# Altium footprint library Motor_Driver_HIP4082_TPH1R403_Board_V1.0.PcbLib: 15 footprints
Each footprint in its own frame and in the unit in brackets; x right, y up, seen from the top. Pads: shape width x height; smd on the part's side, far side on the other; paste and mask are expansions set on the pad; w line width, h text height; cw(c..) or ccw(c..) is an arc to the next point about the centre after c.
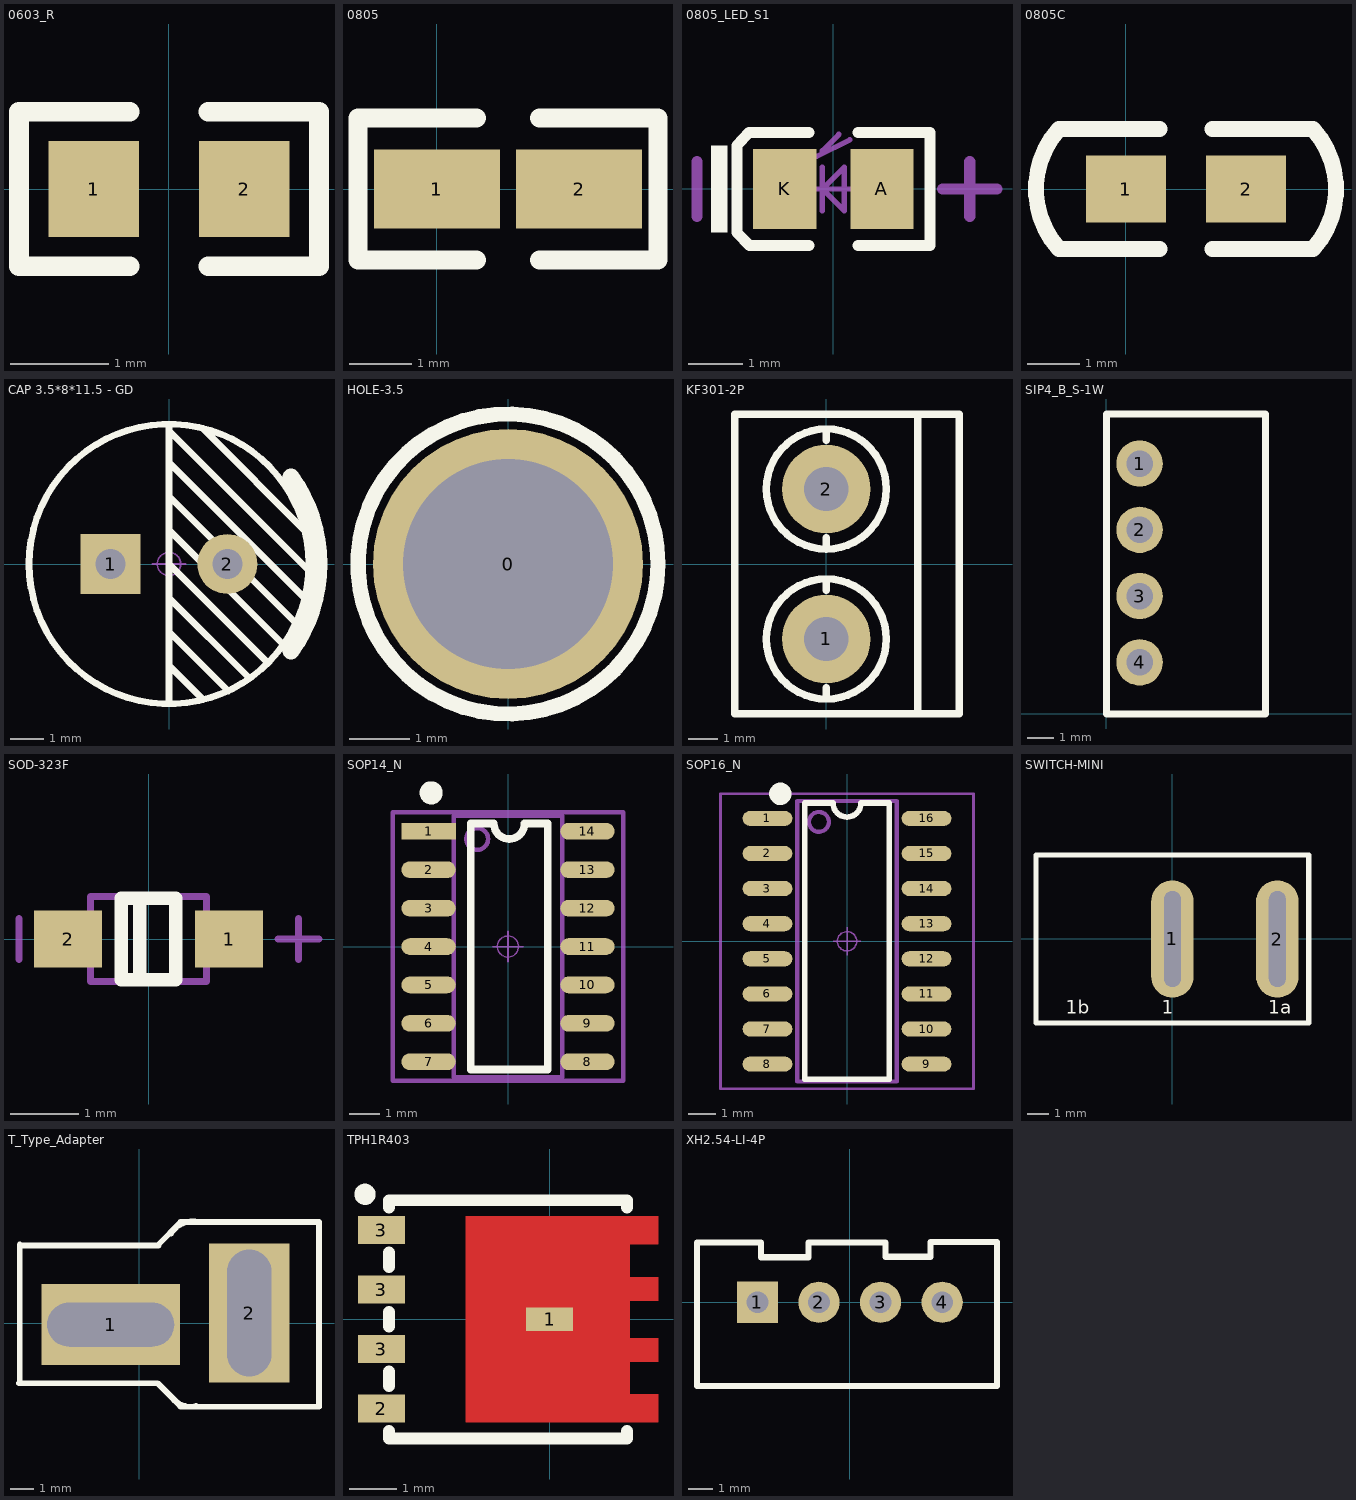
[diagram p0: the footprints below, top view; thin cyan lines are the x and y axes]

## 0603_R [mm]
pads (2):
  rect 0.93x0.98 smd: 1(-0.77,0) 2(0.77,0)
Top Overlay:
  lines w0.2: -0.4,-0.79 -1.535,-0.79 -1.535,0.79 -0.4,0.79 ; 0.4,-0.79 1.535,-0.79 1.535,0.79 0.4,0.79
3D body "User Library-RES_1609-0603.STEP": height 0.56, standoff 0, extent -0.85,-0.4 0.85,0.4

## 0805 [mil]
height 49.21
pads (2):
  rect 80x50 smd: 1(0,0) 2(90,0)
Top Overlay:
  lines w12: 25,-45 -50,-45 -50,45 25,45 ; 65,-45 140,-45 140,45 65,45
3D body "User Library-RES_2013-0805.STEP": height 29.92, standoff 0, extent -0.27,-26.57 90.28,26.58

## 0805_LED_S1 [mm]
pads (2):
  rect 1.16x1.47 smd: A(0.89,0) K(-0.89,0)
Top Overlay:
  rectangle: -2.245,-0.8 -1.945,0.8
  lines w0.2: -0.45,-1.035 -1.535,-1.035 -1.77,-0.8 -1.77,0.8 -1.55,1.035 -0.45,1.035 ; 0.45,-1.035 1.77,-1.035 1.77,1.035 0.45,1.035
Mechanical 13:
  lines w0.1: -0.4,0 0.4,0 ; -0.3,0.6 0.3,0.9 ; -0.2,-0.4 -0.2,0.4 ; -0.2,0.7 0.1,1 ; -0.2,0 0.2,-0.4 0.2,0.4 -0.2,0
Mechanical 15:
  lines w0.203: -2.5,-0.5 -2.5,0.5 ; 2,0 3,0 ; 2.5,-0.5 2.5,0.5
3D body "User Library-led_0805.step": height 1.1, standoff 0, extent -1.01,-0.625 1.01,0.625

## 0805C [mil]
height 183.07
pads (2):
  rect 60x50 smd: 1(0,0) 2(90,0)
Top Overlay:
  lines w12: 25,-45 -50,-45 cw(c0,0) -50,45 25,45 ; 65,-45 140,-45 ccw(c90,0) 140,45 65,45
3D body "SW3DPS-CAPACITOR 0805-DEFAULT.STEP": height 28.74, standoff -1.18, extent 5.64,-25.78 84.38,25.8

## CAP 3.5*8*11.5 - GD [mm] "脚距3.5mm直径8mm高度11.5mm"
height 4.65
pads (2):
  rect 1.8x1.8 hole 0.9: 1(-1.75,0)
  round 1.8 hole 0.9: 2(1.75,0)
Top Overlay:
  circle w0.2: c0,0 r4.2
  lines w0.2: 0,-4.191 0,4 ; 0,-3.048 1.016,-4.064 ; 0,-2.032 1.778,-3.81 ; 0,-1.016 2.413,-3.429 ; 0,0 2.921,-2.921 ; 0,1.016 3.429,-2.413 ; 0,2.032 3.81,-1.778 ; 0,3.048 4.064,-1.016 ; 0,4.191 0,4 ; 1.016,4.064 4.191,0.889 ; 4.191,-0.127 4.127,-0.127 0,4
  lines w0.504: 3.663,-2.616 ccw(c0,0) 3.663,2.616
Mechanical 15:
  circle w0.05: c0,0 r0.35
  lines w0.05: -0.5,0 0.5,0 ; 0,-0.5 0,0.5
3D body "CAP 3.5X8X11.5.STEP": height 11.54, standoff -3.37, extent -4,-4 4.01,4

## HOLE-3.5 [mm]
height 4.65
pads (1):
  round 4.5 hole 3.5: 0(0,0)
Top Overlay:
  circle w0.254: c0,0 r2.5

## KF301-2P [mm]
height 4.65
pads (2):
  round 3 hole 1.5: 1(0,-2.54) 2(0,2.54)
Top Overlay:
  circle w0.254: c0,2.54 r2.032
  circle w0.254: c0,-2.54 r2.032
  lines w0.254: 0,-4.572 0,-4.191 ; 0,-0.889 0,-0.508 ; 0,0.508 0,0.889 ; 0,4.191 0,4.572 ; 3.1,-5.08 3.1,5.08 ; -3.1,-5.08 -3.1,5.08 4.5,5.08 4.5,-5.08 -3.1,-5.08

## SIP4_B_S-1W [mil]
height 183.07
pads (4):
  round 70 hole 40: 1(50,378) 2(50,278) 3(50,178) 4(50,78)
Top Overlay:
  lines w10: 0,0 0,452.76 240,452.76 240,0 0,0

## SOD-323F [mm]
height 1.25
pads (2):
  rect 1x0.83 smd: 1(1.18,0) 2(-1.18,0)
Top Overlay:
  lines w0.2: -0.13,-0.6 -0.13,0.6 ; -0.4,-0.6 0.4,-0.6 0.4,0.6 -0.4,0.6 -0.4,-0.6
Mechanical 13:
  lines w0.1: -0.85,-0.625 -0.85,0.625 0.85,0.625 0.85,-0.625 -0.85,-0.625
Mechanical 15:
  lines w0.1: -1.9,-0.3 -1.9,0.3 ; 1.9,0 2.5,0 ; 2.2,-0.3 2.2,0.3
3D body "SOD323F.STEP": height 0.75, standoff -0.01, extent -1.4,-0.675 1.4,0.675

## SOP14_N [mm] "8.7*6.2*1.8mm（长宽高）"
height 4.65
pads (14):
  rect 1.8x0.55 smd: 1(-2.625,3.81)
  oval 1.8x0.55 smd: 2(-2.625,2.54) 3(-2.625,1.27) 4(-2.625,0) 5(-2.625,-1.27) 6(-2.625,-2.54) 7(-2.625,-3.81) 8(2.625,-3.81) 9(2.625,-2.54) 10(2.625,-1.27) 11(2.625,0) 12(2.625,1.27) 13(2.625,2.54) 14(2.625,3.81)
Top Overlay:
  circle w0.508: c-2.54,5.08 r0.127
  lines w0.254: -1.23,-4.064 1.31,-4.064 1.31,4.064 0.548,4.064 cw(c0.04,4.064) 0.04,3.556 cw(c0.04,4.064) -0.468,4.064 -1.23,4.064 -1.23,-4.064
Mechanical 13:
  circle w0.15: c-1.016,3.556 r0.359
  lines w0.15: -1.8,-4.318 1.8,-4.318 1.8,4.318 -1.8,4.318 -1.8,-4.318
Mechanical 15:
  circle w0.05: c0,0 r0.35
  lines w0.05: -0.5,0 0.5,0 ; 0,-0.5 0,0.5
  lines w0.15: -3.81,-4.445 -3.81,4.445 3.81,4.445 3.81,-4.445 -3.81,-4.445
3D body "SOP14.STEP": height 1.9, standoff 0, extent -3.003,-4.35 3.003,4.35

## SOP16_N [mm] "10.3*6.2*1.8mm（长宽高）封装库来自淘宝卖家 ID：黄晶宝石"
height 1.75
pads (16):
  oval 1.8x0.55 smd: 1(-2.877,4.445) 2(-2.877,3.175) 3(-2.877,1.905) 4(-2.877,0.635) 5(-2.877,-0.635) 6(-2.877,-1.905) 7(-2.877,-3.175) 8(-2.877,-4.445) 9(2.877,-4.445) 10(2.877,-3.175) 11(2.877,-1.905) 12(2.877,-0.635) 13(2.877,0.635) 14(2.877,1.905) 15(2.877,3.175) 16(2.877,4.445)
Top Overlay:
  circle w0.5: c-2.413,5.334 r0.155
  lines w0.2: -1.524,5 -1.524,-5 1.524,-5 1.524,5
  lines w0.203: -1.524,5 -0.508,5 ccw(c0,5) 0,4.492 ccw(c0,5) 0.508,5 1.524,5
Mechanical 13:
  circle w0.15: c-1.016,4.318 r0.359
  lines w0.15: -1.8,-5.08 -1.8,5.08 1.8,5.08 1.8,-5.08 -1.8,-5.08
Mechanical 15:
  circle w0.05: c0,0 r0.35
  lines w0.05: -0.5,0 0.5,0 ; 0,-0.5 0,0.5
  lines w0.1: -4.572,-5.334 -4.572,5.334 4.572,5.334 4.572,-5.334 -4.572,-5.334
3D body "SOP16.STEP": height 1.9, standoff 0, extent -3.003,-5 3.003,5

## SWITCH-MINI [mil]
height 49.21
pads (2):
  oval 80x220 hole 31.5 slot 180 at 90 deg: 1(0,0) 2(196.85,0)
Top Overlay:
  lines w10: -255.91,-157.48 -255.91,157.48 255.91,157.48 255.91,-157.48 -255.91,-157.48
  text "1a" at 180,-140 h25
  text "1" at -20,-140 h25
  text "1b" at -200,-140 h25

## T_Type_Adapter [mm]
pads (2):
  rect 6x3.5 hole 1.905 slot 5.49 at 0 deg: 1(-1.245,-0.051)
  rect 3.5x6 hole 1.905 slot 5.49 at 90 deg: 2(4.755,0.449)
Top Overlay:
  lines w0.254: -5.213,-2.591 0.787,-2.591 1.787,-3.591 ; -5.182,-2.591 -5.182,3.409 ; -5.182,3.378 0.818,3.378 ; 0.803,3.394 1.803,4.394 ; 1.365,3.899 cw(c2.311,3.307) 2.565,4.394 ; 1.422,-3.226 ccw(c2.2,-2.63) 2.454,-3.576 ; 1.772,-3.607 7.772,-3.607 7.772,4.393 ; 1.772,4.394 7.772,4.394

## TPH1R403 [mm]
pads (5):
  rect 1x0.5 smd: 1(0,0)
  rect 1x0.6 smd: 2(-3.586,-1.905) 3(-3.586,-0.635) 3(-3.586,0.635) 3(-3.586,1.905)
Top Layer:
  region: -1.786,2.2 2.314,2.2 2.314,1.6 1.714,1.6 1.714,0.9 2.314,0.9 2.314,0.4 1.714,0.4 1.714,-0.4 2.314,-0.4 2.314,-0.9 1.714,-0.9 1.714,-1.6 2.314,-1.6 2.314,-2.2 -1.786,-2.2
Top Overlay:
  circle w0.254: c-3.937,2.667 r0.1
  lines w0.254: -3.426,-2.385 -3.426,-2.54 1.654,-2.54 1.654,-2.385 ; -3.426,-1.425 -3.426,-1.115 ; -3.426,-0.155 -3.426,0.155 ; -3.426,1.115 -3.426,1.425 ; -3.426,2.385 -3.426,2.54 1.654,2.54 1.654,2.385
Top Paste:
  region: -1.786,2.2 2.314,2.2 2.314,1.6 1.714,1.6 1.714,0.9 2.314,0.9 2.314,0.4 1.714,0.4 1.714,-0.4 2.314,-0.4 2.314,-0.9 1.714,-0.9 1.714,-1.6 2.314,-1.6 2.314,-2.2 -1.786,-2.2
Top Solder:
  region: -1.786,2.2 2.314,2.2 2.314,1.6 1.714,1.6 1.714,0.9 2.314,0.9 2.314,0.4 1.714,0.4 1.714,-0.4 2.314,-0.4 2.314,-0.9 1.714,-0.9 1.714,-1.6 2.314,-1.6 2.314,-2.2 -1.786,-2.2

## XH2.54-LI-4P [mm] "接插件，4P  淘宝ID:黄晶宝石   店铺网址:https://shop463601444.taobao.com"
pads (4):
  rect 1.7x1.7 hole 0.9: 1(-3.81,0)
  round 1.7 hole 0.9: 2(-1.27,0) 3(1.27,0) 4(3.81,0)
Top Overlay:
  lines w0.254: -6.299,-3.454 6.071,-3.454 6.071,2.489 3.327,2.489 3.327,1.88 1.473,1.88 1.473,2.464 -1.702,2.464 -1.702,1.854 -3.658,1.854 -3.658,2.464 -6.299,2.464 -6.299,-3.454
3D body "XH2.54-4P.STEP": height 7.03, standoff -2.47, extent -6.31,-3.3 6.31,2.4